# Altium schematic symbol library capacitor.SchLib: 60 symbols
Pins are listed as number, name and electrical type; pins without a type are passive.

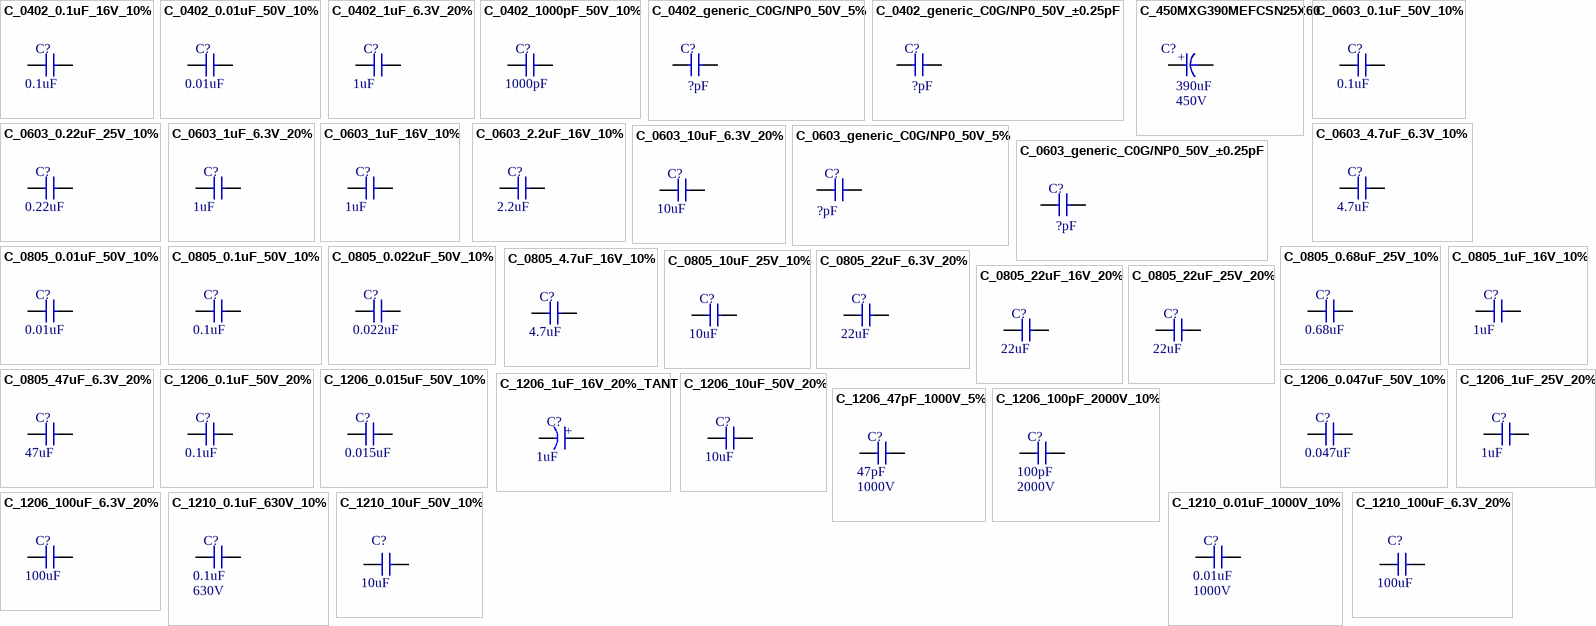
[diagram p0: symbols C_0402_0.1uF_16V_10% to C_1210_100uF_6.3V_20%]

## C_0402_0.1uF_16V_10%
designator C?, comment value 0.1uF  (hidden comment: CAP 0.1uF 16V X7R)
CAP CERM 0.1uF 10% 16V 0402; Package: =SelectedPackage; Voltage: 16V; Temperature Coefficient: X7R; Supplier 1: Digi-Key; Supplier Part Number 1: 1276-1001-1-ND; Supplier 2: Digi-Key; Supplier Part Number 2: 587-1451-1-ND
simulation model Capacitor (Capacitor Model)
footprint 0402_CAPACITOR (0402 CAPACITOR)
pins: 1, 2

## C_0402_0.01uF_50V_10%
designator C?, comment value 0.01uF  (hidden comment: CAP 0.01uF 50V X7R)
CAP CERM 0.01uF 10% 50V 0402; Package: =SelectedPackage; Voltage: 50V; Temperature Coefficient: X7R; Supplier 1: Digi-Key; Supplier Part Number 1: 1276-1028-1-ND
simulation model Capacitor (Capacitor Model)
footprint 0402_CAPACITOR (0402 CAPACITOR)
pins: 1, 2

## C_0402_1uF_6.3V_20%
designator C?, comment value 1uF  (hidden comment: CAP 1uF 6.3V X5R)
CAP CERM 1uF 20% 6.3V 0402; Package: =SelectedPackage; Voltage: 6.3V; Temperature Coefficient: X5R; Supplier 1: Digi-Key; Supplier Part Number 1: 1276-1235-1-ND
simulation model Capacitor (Capacitor Model)
footprint 0402_CAPACITOR (0402 CAPACITOR)
pins: 1, 2

## C_0402_1000pF_50V_10%
designator C?, comment value 1000pF  (hidden comment: CAP 1000pF 16V X7R)
CAP CERM 1000pF 10% 50V 0402; Package: =SelectedPackage; Voltage: 16V; Temperature Coefficient: X7R; Supplier 1: Digi-Key; Supplier 2: Digi-Key; Supplier Part Number 1: 1276-1032-1-ND; Supplier Part Number 2: 311-1036-1-ND
simulation model Capacitor (Capacitor Model)
footprint 0402_CAPACITOR (0402 CAPACITOR)
pins: 1, 2

## C_0402_generic_C0G/NP0_50V_5%
designator C?, comment value ?pF  (hidden comment: C_0402_?pF_C0G/NP0_50V_5%)
Generic 0402 C0G/NP0 50V 5% ceramic capacitor / Valid values range from 10pF to 1000pF with E24 selection (1.0, 1.1, 1.2, 1.3, 1.5, 1.6, 1.8, 2.0, 2.2, 2.4, 2.7, 3.0, 3.3, 3.6, 3.9, 4.3, 4.7, 5.1, 5.6, 6.2, 6.8, 7.5, 8.2, 9.1), although E12 are more common; Manufacturer: Samsung; Temperature Coefficient: C0G, NP0; Package: =SelectedPackage; Voltage: 50V; ValueFormatted: =Copy(Value,0,2)+Copy('012',Pos('p',Value)-2,1); Manufacturer Part Number: ='CL05C'+ValueFormatted+'JB5NNNC'; HelpURL: https://www.digikey.com/products/en/capacitors/ceramic-capacitors/60?k=&pkeyword=&sv=0&pv405=19&sf=0&FV=fffc04fc%2Cc0002%2Cc0003%2C1c0002%2C380020%2C400004%2C440012%2C3f00019%2C1f140000%2Cffe0003c%2Cmu1000pF%7C2049%2Cmu100pF%7C2049%2Cmu10pF%7C2049%2Cmu11pF%7C2049%2Cmu120pF%7C2049%2Cmu12pF%7C2049%2Cmu13pF%7C2049%2Cmu150pF%7C2049%2Cmu15pF%7C2049%2Cmu16pF%7C2049%2Cmu180pF%7C2049%2Cmu18pF%7C2049%2Cmu200pF%7C2049%2Cmu20pF%7C2049%2Cmu220pF%7C2049%2Cmu22pF%7C2049%2Cmu24pF%7C2049%2Cmu270pF%7C2049%2Cmu27pF%7C2049%2Cmu30pF%7C2049%2Cmu330pF%7C2049%2Cmu33pF%7C2049%2Cmu36pF%7C2049%2Cmu390pF%7C2049%2Cmu39pF%7C2049%2Cmu470pF%7C2049%2Cmu47pF%7C2049%2Cmu51pF%7C2049%2Cmu560pF%7C2049%2Cmu56pF%7C2049%2Cmu62pF%7C2049%2Cmu680pF%7C2049%2Cmu68pF%7C2049%2Cmu75pF%7C2049%2Cmu820pF%7C2049%2Cmu82pF%7C2049%2Cmu91pF%7C2049&ColumnSort=2049
simulation model Capacitor (Capacitor Model)
footprint 0402_CAPACITOR (0402 CAPACITOR)
pins: 1, 2

## C_0402_generic_C0G/NP0_50V_±0.25pF
designator C?, comment value ?pF  (hidden comment: C_0402_?pF_C0G/NP0_±0.25pF)
Generic 0402 C0G/NP0 50V ±0.25pF ceramic capacitor, Very small values only / Valid values range from 0.5pF to 10pF. Specifically (in pF): / 0.5, 0.75, 1, 1.2, 1.5, 1.8, 2, 2.2, 2.4, 2.7, 3, 3.3, 3.6, 3.9, 4, 4.3, 4.7, 5, 5.1, 5.6, 6, 6.8, 8, 8.2, 9, 10; Manufacturer: Samsung; Temperature Coefficient: C0G, NP0; Package: =SelectedPackage; Voltage: 50V; ValueFormatted: =Copy(Copy(Value,0,Pos('.',Value)-Pos('p',Value)+3)+'R'+Copy(Value,Pos('.',Value)+1,Pos('p',Value)-Pos('.',Value)-1),0,Pos('.',Value)*2)+Copy(Copy('0',Length(Value)-2,1)+Copy(Value,0,Pos('p',Value)-1)+'0',Pos('.',Value)*10,10); Manufacturer Part Number: ='CL05C'+ValueFormatted+'CB5NNNC'; HelpURL: https://www.digikey.com/products/en/capacitors/ceramic-capacitors/60?FV=ffe0003c%2C1c0002%2C1f140000&quantity=0&ColumnSort=2049&page=1&k=CB5NNNC&pageSize=100&pkeyword=CB5NNNC
simulation model Capacitor (Capacitor Model)
footprint 0402_CAPACITOR (0402 CAPACITOR)
pins: 1, 2

## C_450MXG390MEFCSN25X60
designator C?, comment value 390uF  Voltage: 450V  (hidden comment: 450MXG390MEFCSN25X60)
390µF 450V Aluminum Electrolytic Capacitors Radial, Can - Snap-In 3000 Hrs @ 105°C; Manufacturer: Rubycon; Ripple Current @ Low Frequency: 2.07A @ 120Hz; Ripple Current @ High Frequency: 2.898A @ 10kHz; Tolerance: 20%; Manufacturer Part Number: 450MXG390MEFCSN25X60; Lifetime @ Temp.: 3000 Hrs @ 105°C; Operating Temperature: -25°C ~ 105°C; Supplier 1: Digi-Key; Supplier Part Number 1: 1189-3394-ND
footprint CAP_RADIAL_25x62mm_THRU (Aluminum Capacitor Radial)
pins: 1, 2
text: +

## C_0603_0.1uF_50V_10%
designator C?, comment value 0.1uF  (hidden comment: CAP 0.1uF 50V X7R)
CAP CERM 0.1uF 10% 50V 0603; SVP Creator: Spencer Berglund; Package: =SelectedPackage; Voltage: 50V; Temperature Coefficient: X7R; Supplier 1: Digi-Key; Supplier Part Number 1: 1276-1000-1-ND
simulation model Capacitor (Capacitor Model)
footprint 0603_CAPACITOR (0603 Capacitor)
pins: 1, 2

## C_0603_0.22uF_25V_10%
designator C?, comment value 0.22uF  (hidden comment: CAP 0.22uF 25V X7R)
CAP CER 0.22UF 25V X7R 0603; Package: =SelectedPackage; Voltage: 25V; Temperature Coefficient: X7R; Supplier 1: Arrow; Supplier 2: Digi-Key; Supplier Part Number 1: CL10B224KA8NNNC; Supplier Part Number 2: 1276-1111-1-ND
simulation model Capacitor (Capacitor Model)
footprint 0603_CAPACITOR (0603 Capacitor)
pins: 1, 2

## C_0603_1uF_6.3V_20%
designator C?, comment value 1uF  (hidden comment: CAP 1uF 6.3V X5R)
CAP CERM 1uF 20% 6.3V 0603; SVP Creator: Spencer Berglund; Package: =SelectedPackage; Voltage: 6.3V; Temperature Coefficient: X5R; Supplier 1: Digi-Key; Supplier Part Number 1: 1276-1867-1-ND
simulation model Capacitor (Capacitor Model)
footprint 0603_CAPACITOR (0603 Capacitor)
pins: 1, 2

## C_0603_1uF_16V_10%
designator C?, comment value 1uF  (hidden comment: CAP 1uF 16V X7R)
CAP CERM 1uF 10% 16V 0603; SVP Creator: Spencer Berglund; Package: =SelectedPackage; Voltage: 16V; Temperature Coefficient: X7R; Supplier 1: Digi-Key; Supplier Part Number 1: 1276-6524-6-ND
simulation model Capacitor (Capacitor Model)
footprint 0603_CAPACITOR (0603 Capacitor)
pins: 1, 2

## C_0603_2.2uF_16V_10%
designator C?, comment value 2.2uF  (hidden comment: CAP 2.2uF 16V X5R)
CAP CERM 2.2uF 10% 16V 0603; SVP Creator: Spencer Berglund; Package: =SelectedPackage; Voltage: 16V; Temperature Coefficient: X5R; Supplier 1: Digi-Key; Supplier Part Number 1: 399-7886-6-ND
simulation model Capacitor (Capacitor Model)
footprint 0603_CAPACITOR (0603 Capacitor)
pins: 1, 2

## C_0603_4.7uF_6.3V_10%
designator C?, comment value 4.7uF  (hidden comment: CAP 4.7uF 6.3V X5R)
CAP CER 4.7UF 6.3V X5R 0603; Package: =SelectedPackage; Voltage: 6.3V; Temperature Coefficient: X5R; Supplier 1: Digi-Key; Supplier Part Number 1: 1276-1045-1-ND
simulation model Capacitor (Capacitor Model)
footprint 0603_Capacitor (0603 Capacitor)
pins: 1, 2

## C_0603_10uF_6.3V_20%
designator C?, comment value 10uF  (hidden comment: CAP 10uF 6.3V X5R)
CAP CER 10UF 6.3V X5R 0603; Package: =SelectedPackage; Voltage: 6.3V; Temperature Coefficient: X5R; Supplier 1: Digi-Key; Supplier Part Number 1: 1276-1119-1-ND
footprint 0603_Capacitor (0603 Capacitor)
simulation model Capacitor (Capacitor Model)
pins: 1, 2

## C_0603_generic_C0G/NP0_50V_5%
designator C?, comment value ?pF  (hidden comment: C_0603_?pF_C0G/NP0_50V_5%)
Generic 0603 C0G/NP0 50V 5% ceramic capacitor / Valid values range from 10pF to 5600pF with E24 selection (1.0, 1.1, 1.2, 1.3, 1.5, 1.6, 1.8, 2.0, 2.2, 2.4, 2.7, 3.0, 3.3, 3.6, 3.9, 4.3, 4.7, 5.1, 5.6, 6.2, 6.8, 7.5, 8.2, 9.1), although E12 are more common; Manufacturer: Samsung; Temperature Coefficient: C0G, NP0; Package: =SelectedPackage; Voltage: 50V; ValueFormatted: =Copy(Value,0,2)+Copy('012',Pos('p',Value)-2,1); Manufacturer Part Number: ='CL10C'+ValueFormatted+'JB8NNNC'; HelpURL: https://www.digikey.com/products/en/capacitors/ceramic-capacitors/60?k=&pkeyword=&sv=0&sf=0&FV=fffc04fc%2Cc0002%2C1c0002%2C380020%2C400005%2C440012%2C3f00019%2C6540013%2C1f140000%2Cffe0003c&quantity=&ColumnSort=2049
simulation model Capacitor (Capacitor Model)
footprint 0603_Capacitor (0603 Capacitor)
pins: 1, 2

## C_0603_generic_C0G/NP0_50V_±0.25pF
designator C?, comment value ?pF  (hidden comment: C_0603_?pF_C0G/NP0_50V_±0.25pF)
Generic 0603 C0G/NP0 50V ±0.25pF ceramic capacitor, Very small values only / Valid values range from 0.5pF to 10pF. Specifically (in pF): / 0.3, 0.5, 0.75, 1, 1.2, 1.5, 1.8, 2, 2.2, 2.4, 2.7, 3, 3.3, 3.6, 3.9, 4, 4.3, 4.7, 5, 5.1, 5.6, 6, 6.8, 8, 8.2, 9, 10; Manufacturer: Samsung; Temperature Coefficient: C0G, NP0; Package: =SelectedPackage; Voltage: 50V; ValueFormatted: =Copy(Copy(Value,0,Pos('.',Value)-Pos('p',Value)+3)+'R'+Copy(Value,Pos('.',Value)+1,Pos('p',Value)-Pos('.',Value)-1),0,Pos('.',Value)*2)+Copy(Copy('0',Length(Value)-2,1)+Copy(Value,0,Pos('p',Value)-1)+'0',Pos('.',Value)*10,10); Manufacturer Part Number: ='CL10C'+ValueFormatted+'CB8NNNC'; HelpURL: https://www.digikey.com/products/en/capacitors/ceramic-capacitors/60?FV=fffc04fc%2C1c0002%2Cffe0003c%2C1f140000&quantity=0&ColumnSort=2049&k=CB8NNNC&pkeyword=CB8NNNC
simulation model Capacitor (Capacitor Model)
footprint 0402_Capacitor (0402 CAPACITOR)
pins: 1, 2

## C_0805_0.01uF_50V_10%
designator C?, comment value 0.01uF  (hidden comment: CAP 0.01uF 50V X7R)
CAP CERM 0.01uF 10% 50V 0805; SVP Creator: Spencer Berglund; Package: =SelectedPackage; Voltage: 50V; Temperature Coefficient: X7R; Supplier 1: Digi-Key; Supplier Part Number 1: 1276-1078-1-ND
footprint 0805_Capacitor (0805 Capacitor)
simulation model Capacitor (Capacitor Model)
pins: 1, 2

## C_0805_0.1uF_50V_10%
designator C?, comment value 0.1uF  (hidden comment: CAP 0.1uF 50V X7R)
CAP CERM 0.1uF 10% 50V 0805; SVP Creator: Spencer Berglund; Package: =SelectedPackage; Voltage: 50V; Temperature Coefficient: X7R; Supplier 1: Digi-Key; Supplier Part Number 1: 1276-1003-1-ND
footprint 0805_Capacitor (0805 Capacitor)
simulation model Capacitor (Capacitor Model)
pins: 1, 2

## C_0805_0.022uF_50V_10%
designator C?, comment value 0.022uF  (hidden comment: CAP 0.022uF 50V X7R)
CAP CERM 0.022uF 10% 50V 0805; SVP Creator: Spencer Berglund; Package: =SelectedPackage; Voltage: 50V; Temperature Coefficient: X7R; Supplier 1: Digi-Key; Supplier Part Number 1: 1276-1795-1-ND
footprint 0805_Capacitor (0805 Capacitor)
simulation model Capacitor (Capacitor Model)
pins: 1, 2

## C_0805_0.68uF_25V_10%
designator C?, comment value 0.68uF  (hidden comment: CAP 0.68uF 25V X7R)
CAP CERM 0.68uF 10% 25V 0805; Package: =SelectedPackage; Voltage: 25V; Temperature Coefficient: X7R; Supplier 1: Digi-Key; Supplier 2: Mouser; Supplier Part Number 1: 311-3386-1-ND; Supplier Part Number 2: 603-CC805KKX7R8BB684
footprint 0805_Capacitor (0805 Capacitor)
simulation model Capacitor (Capacitor Model)
pins: 1, 2

## C_0805_1uF_16V_10%
designator C?, comment value 1uF  (hidden comment: CAP 1uF 16V X7R)
CAP CERM 1uF 10% 16V 0805; SVP Creator: Spencer Berglund; Package: =SelectedPackage; Voltage: 16V; Temperature Coefficient: X7R; Supplier 1: Digi-Key; Supplier Part Number 1: 1276-6471-1-ND
footprint 0805_Capacitor (0805 Capacitor)
simulation model Capacitor (Capacitor Model)
pins: 1, 2

## C_0805_4.7uF_16V_10%
designator C?, comment value 4.7uF  (hidden comment: CAP 4.7uF 16V X5R)
CAP CERM 4.7uF 10% 16V 0805; SVP Creator: Spencer Berglund; Package: =SelectedPackage; Voltage: 16V; Temperature Coefficient: X5R; Supplier 1: Digi-Key; Supplier Part Number 1: 1276-1065-6-ND
footprint 0805_Capacitor (0805 Capacitor)
simulation model Capacitor (Capacitor Model)
pins: 1, 2

## C_0805_10uF_25V_10%
designator C?, comment value 10uF  (hidden comment: CAP 10uF 25V X5R)
CAP CER 10UF 25V X5R 0805; Package: =SelectedPackage; Voltage: 25V; Temperature Coefficient: X5R; Supplier 1: Digi-Key; Supplier Part Number 1: 1276-2891-1-ND
footprint 0805_Capacitor (0805 Capacitor)
simulation model Capacitor (Capacitor Model)
pins: 1, 2

## C_0805_22uF_6.3V_20%
designator C?, comment value 22uF  (hidden comment: CAP 22uF 6.3V X5R)
CAP CERM 22uF 20% 6.3V 0805; Package: =SelectedPackage; Voltage: 6.3V; Temperature Coefficient: X5R; Supplier 1: Digi-Key; Supplier Part Number 1: 1276-1100-1-ND
footprint 0805_Capacitor (0805 Capacitor)
simulation model Capacitor (Capacitor Model)
pins: 1, 2

## C_0805_22uF_16V_20%
designator C?, comment value 22uF  (hidden comment: CAP 22uF 16V X5R)
CAP CERM 22uF 20% 16V 0805; Package: =SelectedPackage; Voltage: 16V; Temperature Coefficient: X5R; Supplier 1: Digi-Key; Supplier Part Number 1: 1276-6780-6-ND
footprint 0805_Capacitor (0805 Capacitor)
simulation model Capacitor (Capacitor Model)
pins: 1, 2

## C_0805_22uF_25V_20%
designator C?, comment value 22uF  (hidden comment: CAP 22uF 25V X5R)
CAP CERM 22uF 20% 25V 0805; Package: =SelectedPackage; Voltage: 25V; Temperature Coefficient: X5R; Supplier 1: Digi-Key; Supplier 2: Mouser; Supplier Part Number 1: 490-14661-1-ND; Supplier Part Number 2: 81-GRM21BR61E226ME4K
footprint 0805_Capacitor (0805 Capacitor)
simulation model Capacitor (Capacitor Model)
pins: 1, 2

## C_0805_47uF_6.3V_20%
designator C?, comment value 47uF  (hidden comment: CAP 47uF 6.3V X5R)
CAP CERM 47uF 20% 6.3V 0805; Package: =SelectedPackage; Voltage: 6.3V; Temperature Coefficient: X5R; Supplier 1: Digi-Key; Supplier Part Number 1: 1276-1852-1-ND
footprint 0805_Capacitor (0805 Capacitor)
simulation model Capacitor (Capacitor Model)
pins: 1, 2

## C_1206_0.1uF_50V_20%
designator C?, comment value 0.1uF  (hidden comment: CAP 0.1uF 50V X7R)
CAP CERM 0.1uF 20% 50V 1206; SVP Creator: Spencer Berglund; Package: =SelectedPackage; Voltage: 50V; Temperature Coefficient: X7R; Supplier 1: Digi-Key; Supplier Part Number 1: 1276-2746-1-ND
simulation model Capacitor (Capacitor Model)
footprint 1206_CAPACITOR (1206 Resistor/Capacitor)
pins: 1, 2

## C_1206_0.015uF_50V_10%
designator C?, comment value 0.015uF  (hidden comment: CAP 0.015uF 50V X7R)
CAP CERM 0.015uF 10% 50V 1206; SVP Creator: Spencer Berglund; Package: =SelectedPackage; Voltage: 50V; Temperature Coefficient: X7R; Supplier 1: Digi-Key; Supplier Part Number 1: 1276-1773-1-ND
simulation model Capacitor (Capacitor Model)
footprint 1206_CAPACITOR (1206 Resistor/Capacitor)
pins: 1, 2

## C_1206_0.047uF_50V_10%
designator C?, comment value 0.047uF  (hidden comment: CAP 0.047uF 50V X7R)
CAP CERM 0.047uF 10% 50V 1206; SVP Creator: Spencer Berglund; Package: =SelectedPackage; Voltage: 50V; Temperature Coefficient: X7R; Supplier 1: Digi-Key; Supplier Part Number 1: 1276-1149-1-ND
simulation model Capacitor (Capacitor Model)
footprint 1206_CAPACITOR (1206 Resistor/Capacitor)
pins: 1, 2

## C_1206_1uF_16V_20%_TANT
designator C?  value 1uF
CAP TANT 1uF 20% 16V 1206; SVP Creator: Spencer Berglund; Type: Tantalum; Package: =SelectedPackage; Voltage: 16V; Supplier 1: Digi-Key; Supplier Part Number 1: 399-3681-1-ND
simulation model Capacitor (Capacitor Model)
footprint 1206_CAPACITOR_TANT (1206 Capacitor (Tantalum))
pins: 1, 2
text: +

## C_1206_1uF_25V_20%
designator C?, comment value 1uF  (hidden comment: CAP 1uF 25V X7R)
CAP CERM 1uF 20% 25V 1206; SVP Creator: Spencer Berglund; Package: =SelectedPackage; Voltage: 25V; Temperature Coefficient: X7R; Supplier 1: Digi-Key; Supplier Part Number 1: 1276-3098-1-ND
simulation model Capacitor (Capacitor Model)
footprint 1206_CAPACITOR (1206 Resistor/Capacitor)
pins: 1, 2

## C_1206_10uF_50V_20%
designator C?, comment value 10uF  (hidden comment: CAP 10uF 50V X5R)
CAP CERM 10uF 20% 50V 1206; SVP Creator: Spencer Berglund; Package: =SelectedPackage; Voltage: 50V; Temperature Coefficient: X5R; Supplier 1: Digi-Key; Supplier Part Number 1: 1276-6736-6-ND
simulation model Capacitor (Capacitor Model)
footprint 1206_CAPACITOR (1206 Resistor/Capacitor)
pins: 1, 2

## C_1206_47pF_1000V_5%
designator C?, comment value 47pF  Voltage: 1000V  (hidden comment: CAP 47pF 1000V C0G/NPO)
CAP CER 47PF 1KV C0G/NPO 1206; Package: =SelectedPackage; Temperature Coefficient: C0G/NPO; Supplier 1: Digi-Key; Supplier Part Number 1: 311-1915-6-ND
simulation model Capacitor (Capacitor Model)
footprint 1206_CAPACITOR (1206 Resistor/Capacitor)
pins: 1, 2

## C_1206_100pF_2000V_10%
designator C?, comment value 100pF  Voltage: 2000V  (hidden comment: CAP 100pF 2000V X7R)
CAP CER 100PF 2KV X7R 1206; SVP Creator: Spencer Berglund; Package: =SelectedPackage; Temperature Coefficient: X7R; Supplier 1: Digi-Key; Supplier Part Number 1: 478-3999-6-ND
simulation model Capacitor (Capacitor Model)
footprint 1206_CAPACITOR (1206 Resistor/Capacitor)
pins: 1, 2

## C_1206_100uF_6.3V_20%
designator C?, comment value 100uF  (hidden comment: CAP 100uF 6.3V X5R)
CAP CERM 100uF 20% 6.3V 1206; Package: =SelectedPackage; Voltage: 6.3V; Temperature Coefficient: X5R; Supplier 1: Digi-Key; Supplier Part Number 1: 1276-1782-1-ND
simulation model Capacitor (Capacitor Model)
footprint 1206_CAPACITOR (1206 Resistor/Capacitor)
pins: 1, 2

## C_1210_0.1uF_630V_10%
designator C?, comment value 0.1uF  Voltage: 630V  (hidden comment: C1210C104KBRAC7800)
CAP CER 0.1UF 630V X7R 1210; Manufacturer: KEMET; Package: 1210; Manufacturer PN: C1210C104KBRAC7800; Supplier 1: Digi-Key; Supplier Part Number 1: 399-13490-1-ND
footprint 1210_Capacitor (1210 Capacitor)
simulation model Capacitor (Capacitor Model)
pins: 1, 2

## C_1210_0.01uF_1000V_10%
designator C?, comment value 0.01uF  Voltage: 1000V  (hidden comment: C1210C103KDRACAUTO)
CAP CER 1210 10NF 1000V X7R 10%; Manufacturer: KEMET; Package: 1210; Manufacturer PN: C1210C103KDRACAUTO; Supplier 1: Digi-Key; Supplier Part Number 1: 399-16742-1-ND
footprint 1210_Capacitor (1210 Capacitor)
simulation model Capacitor (Capacitor Model)
pins: 1, 2

## C_1210_10uF_50V_10%
designator C?  value 10uF
CAP CER 10UF 50V 10% X5R 1210; Manufacturer: Taiyo Yuden; Manufacturer PN: UMK325BJ106KM-T; Package: 1210; Supplier 1: Digi-Key; Supplier Part Number 1: 587-2247-1-ND; Voltage: 50V
footprint 1210_Capacitor (1210 Capacitor)
simulation model Capacitor (Capacitor Model)
pins: 1, 2

## C_1210_100uF_6.3V_20%
designator C?, comment value 100uF  (hidden comment: C3225X5R0J107M250AC)
CAP CER 100UF 6.3V 20% X5R 1210; SVP Creator: Spencer Berglund; Package: 1210; Supplier 1: Digi-Key; Supplier Part Number 1: 445-1437-1-ND
footprint 1210_Capacitor (1210 Capacitor)
simulation model Capacitor (Capacitor Model)
pins: 1, 2

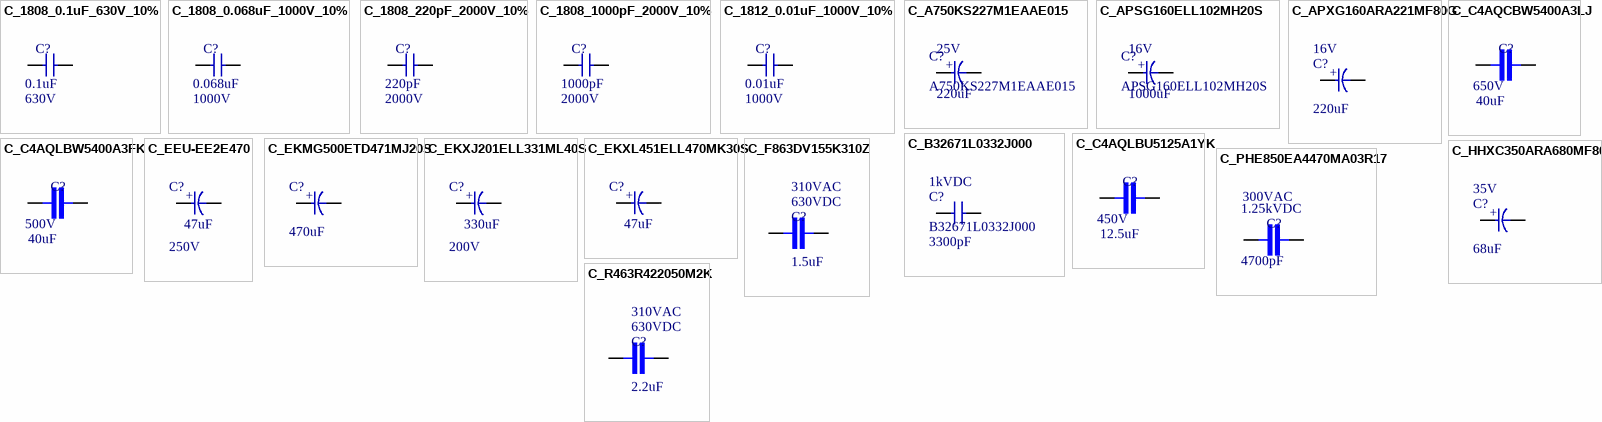
[diagram p1: symbols C_1808_0.1uF_630V_10% to C_R463R422050M2K]

## C_1808_0.1uF_630V_10%
designator C?, comment value 0.1uF  Voltage: 630V  (hidden comment: C1808X104KBRACTU)
CAP CER 0.1UF 630V X7R 1808; Manufacturer: KEMET; Package: 1808; Manufacturer PN: C1808X104KBRACTU; Supplier 1: Digi-Key; Supplier Part Number 1: 399-6776-1-ND
footprint 1808_Capacitor (1808 Capacitor)
simulation model Capacitor (Capacitor Model)
pins: 1, 2

## C_1808_0.068uF_1000V_10%
designator C?, comment value 0.068uF  Voltage: 1000V  (hidden comment: C1808C683KDRACTU)
CAP CER 0.068UF 1KV X7R 1808; Manufacturer: KEMET; Package: 1808; Manufacturer PN: C1808C683KDRACTU; Supplier 1: Digi-Key; Supplier Part Number 1: 399-6754-1-ND
footprint 1808_Capacitor (1808 Capacitor)
simulation model Capacitor (Capacitor Model)
pins: 1, 2

## C_1808_220pF_2000V_10%
designator C?, comment value 220pF  Voltage: 2000V  (hidden comment: GR442QR73D221KW01L)
CAP CER 220PF 2KV X7R 1808; Manufacturer: Murata; Package: 1808; Manufacturer PN: GR442QR73D221KW01L; Supplier 1: Digi-Key; Supplier Part Number 1: 490-6104-1-ND
footprint 1808_Capacitor (1808 Capacitor)
simulation model Capacitor (Capacitor Model)
pins: 1, 2

## C_1808_1000pF_2000V_10%
designator C?, comment value 1000pF  Voltage: 2000V  (hidden comment: C1808C102KGRACAUTO)
CAP CER 1000PF 2KV X7R 1808; Manufacturer: KEMET; Package: 1808; Manufacturer PN: C1808C102KGRACAUTO; Supplier 1: Digi-Key; Supplier Part Number 1: 399-15911-1-ND
footprint 1808_Capacitor (1808 Capacitor)
simulation model Capacitor (Capacitor Model)
pins: 1, 2

## C_1812_0.01uF_1000V_10%
designator C?, comment value 0.01uF  Voltage: 1000V  (hidden comment: C4532X7R3A103K200KA)
CAP CER 10000PF 1KV X7R 1812; Manufacturer: TDK; Package: 1812; Manufacturer PN: C4532X7R3A103K200KA; Supplier 1: Digi-Key; Supplier Part Number 1: 445-2388-6-ND
footprint 1812_Capacitor (Footprint not found)
simulation model Capacitor (Capacitor Model)
pins: 1, 2

## C_A750KS227M1EAAE015
designator C?, comment A750KS227M1EAAE015  value 220uF  Voltage Rating: 25V
220µF 25V Aluminum Polymer Capacitor Radial, Can 15 mOhm 2000 Hrs @ 105°C; Manufacturer: KEMET; Tolerance: 20%; ESR (Equivalent Series Resistance): 15mR; Life (Hours): 2000Hour; Supplier 1: Digi-Key; Supplier Part Number 1: 399-13899-ND; Max Operating Temperature: 105°C; Min Operating Temperature: -55°C; Manufacturer Part Number: A750KS227M1EAAE015
footprint CAP_RADIAL_3.5x13mm_THRU
pins: 1, 2
text: +

## C_APSG160ELL102MH20S
designator C?, comment APSG160ELL102MH20S  value 1000uF  Voltage Rating: 16V
1000µF 16V Aluminum Polymer Capacitor Radial, Can 8mOhm 20000 Hrs @ 105°C; Manufacturer: United Chemi-Con; Tolerance: 20%; ESR (Equivalent Series Resistance): 8mR; Life (Hours): 20000Hour; Max Operating Temperature: 105°C; Min Operating Temperature: -55°C; Manufacturer Part Number: APSG160ELL102MH20S; Supplier 1: Digi-Key; Supplier 2: Mouser; Supplier Part Number 1: 565-4311-ND; Supplier Part Number 2: 661-APSG160E102MH20S
footprint CAP_RADIAL_8x21.5mm_THRU (Aluminum Capacitor Radial, 3.5mm lead spacing)
pins: 1, 2
text: +

## C_APXG160ARA221MF80G
designator C?, comment value 220uF  Voltage Rating: 16V  (hidden comment: APXG160ARA221MF80G)
220µF 16V Aluminum Polymer Capacitor Radial, Can - SMD 22 mOhm 15000 Hrs @ 105°C; Manufacturer: United Chemi-Con; ESR (Equivalent Series Resistance): 22mR; Life (Hours): 15000Hour; Tolerance: 20%; Ripple Current: 3.3A; Supplier 1: Digi-Key; Supplier Part Number 1: 565-4283-6-ND; Manufacturer Part Number: APXG160ARA221MF80G; Min Operating Temperature: -55°C; Max Operating Temperature: 105°C
footprint CAP_6.3x8mm_SMD
pins: 1, 2
text: +

## C_B32671L0332J000
designator C?, comment B32671L0332J000  value 3300pF  Voltage Rating (DC): 1kVDC
3300pF Film Capacitor 500V 1000V (1kV) Polypropylene (PP), Metallized Radial; Manufacturer: TDK EPCOS; Tolerance: 5%; Voltage Rating (AC): 500VAC; Supplier 1: Digi-Key; Supplier Part Number 1: 495-3194-ND; Max Operating Temperature: 125°C; Manufacturer Part Number: B32671L0332J000; Min Operating Temperature: -55°C; Dielectric Material: Polypropylene
footprint C_FILM_10mm_13x4mm (10mm lead spaing flim capacitor)
pins: 1, 2

## C_C4AQCBW5400A3LJ
designator C?, comment value 40uF  Voltage: 650V  (hidden comment: C4AQCBW5400A3LJ)
40µF Film Capacitor 650V Polypropylene (PP), Metallized Radial - 4 Leads; Manufacturer: KEMET; Tolerance: 5%; ESR: 2.8mR; Supplier 1: Digi-Key; Supplier Part Number 1: 399-16997-ND; Manufacturer Part Number: C4AQCBW5400A3LJ; Dielectric Material: PP; Operating Temperature: -40°C ~ 105°C
footprint C_FILM_37.5mm_42x30mm_4-pin (37.5mm lead spaing, 4-pin flim capacitor)
pins: 1, 2

## C_C4AQLBU5125A1YK
designator C?, comment value 12.5uF  Voltage: 450V  (hidden comment: C4AQLBU5125A1YK)
12.5µF Film Capacitor 500V Polypropylene (PP), Metallized Radial; Manufacturer: KEMET; Tolerance: 10%; ESR: 6.8mR; Manufacturer Part Number: C4AQLBU5125A1YK; Dielectric Material: PP; Operating Temperature: -40°C ~ 105°C; Supplier 1: Digikey; Supplier Part Number 1: 399-16975-ND
footprint C_FILM_27.5mm_31.5x14mm (27.5mm lead spaing flim capacitor)
pins: 1, 2

## C_C4AQLBW5400A3FK
designator C?, comment value 40uF  Voltage: 500V  (hidden comment: C4AQLBW5400A3FK)
40µF Film Capacitor 500V Polypropylene (PP), Metallized Radial - 4 Leads; Manufacturer: KEMET; Tolerance: 10%; ESR: 3.5mR; Manufacturer Part Number: C4AQLBW5400A3FK; Dielectric Material: PP; Operating Temperature: -40°C ~ 105°C; Supplier 1: Digi-Key; Supplier Part Number 1: 399-16996-ND
footprint C_FILM_37.5mm_42x20mm_4-pin (Footprint not found)
pins: 1, 2

## C_EEU-EE2E470
designator C?, comment value 47uF  Voltage: 250V  (hidden comment: EEU-EE2E470)
47µF 250V Aluminum Electrolytic Capacitors Radial, Can 10000 Hrs @ 105°C; Manufacturer: Panasonic; Ripple Current @ Low Frequency: 451.5mA @ 120Hz; Ripple Current @ High Frequency: 1.29A @ 100kHz; Manufacturer Part Number: EEU-EE2E470; Lifetime @ Temp.: 10000 Hrs @ 105°C; Operating Temperature: -25°C ~ 105°C; Supplier 1: Digi-Key; Supplier Part Number 1: P13642-ND
footprint CAP_RADIAL_12.5x27mm_THRU (Aluminum Capacitor Radial)
pins: 1, 2
text: +

## C_EKMG500ETD471MJ20S
designator C?, comment value 470uF  (hidden comment: EKMG500ETD471MJ20S)
470µF 50V Aluminum Capacitors Radial, Can 1000 Hrs @ 105°C; Supplier 1: Digi-Key; Supplier Part Number 1: 565-3745-1-ND
footprint CAP_RADIAL_10x21.5mm_THRU (Aluminum Capacitor Radial)
pins: 1, 2
text: +

## C_EKXJ201ELL331ML40S
designator C?, comment value 330uF  Voltage: 200V  (hidden comment: EKXJ201ELL331ML40S)
330µF 200V Aluminum Electrolytic Capacitors Radial, Can 12000 Hrs @ 105°C; Manufacturer: United Chemi-Con; Ripple Current @ Low Frequency: 1.425A @ 120Hz; Ripple Current @ High Frequency: 3.20625A @ 100kHz; Manufacturer Part Number: EKXJ201ELL331ML40S; Lifetime @ Temp.: 12000 Hrs @ 105°C; Operating Temperature: -25°C ~ 105°C; Supplier 1: Digi-Key; Supplier Part Number 1: 565-3496-ND
footprint CAP_RADIAL_16x41.5mm_THRU (Aluminum Capacitor Radial)
pins: 1, 2
text: +

## C_EKXL451ELL470MK30S
designator C?, comment value 47uF  (hidden comment: EKXL451ELL470MK30S)
47µF 450V Aluminum Electrolytic Capacitors Radial, Can 12000 Hrs @ 105°C; Manufacturer: United Chemi-Con; Ripple Current @ Low Frequency: 440mA @ 120Hz; Ripple Current @ High Frequency: 1.1A @ 100kHz; Supplier 1: Digi-Key; Manufacturer Part Number: EKXL451ELL470MK30S; Supplier Part Number 1: 565-5051-ND; Voltage: 450V; Lifetime @ Temp.: 12000 Hrs @ 105°C; Operating Temperature: -40°C ~ 105°C
footprint CAP_RADIAL_12.5x32mm_THRU (Footprint not found)
pins: 1, 2
text: +

## C_F863DV155K310Z
designator C?, comment value 1.5uF  Voltage Rating (DC): 630VDC  Voltage Rating (AC): 310VAC  (hidden comment: F863DV155K310Z)
1.5µF Film Capacitor 310V Polypropylene (PP), Metallized Radial; Manufacturer: KEMET; Tolerance: 10%; Voltage: 630V; Manufacturer Part Number: F863DV155K310Z; Min Operating Temperature: -40°C; Dielectric Material: PP; Max Operating Temperature: 110°C; Supplier 1: Digi-Key; Supplier Part Number 1: 399-14810-ND
footprint C_FILM_22.5mm_26.5x13mm (22.5mm lead spaing flim capacitor)
pins: 1, 2

## C_HHXC350ARA680MF80G
designator C?, comment value 68uF  Voltage Rating: 35V  (hidden comment: HHXC350ARA680MF80G)
68µF 35V Aluminum Polymer Capacitor Radial, Can - SMD 35mOhm @ 100kHz 4000 Hrs @ 125°C; Tolerance: 20%; Type: Hybrid; Ripple Current @ High Frequency: 1.4A @ 100kHz; Supplier 1: Digi-Key; Supplier Part Number 1: 565-4778-1-ND; Operating Temperature: -55°C ~ 125°C; Lifetime @ Temp.: 4000 Hrs @ 125°C; ESR (Equivalent Series Resistance): 35 mOhm @ 100kHz
footprint CAP_6.3x8mm_SMD
pins: 1, 2
text: +

## C_PHE850EA4470MA03R17
designator C?, comment value 4700pF  Voltage Rating (DC): 1.25kVDC  Voltage Rating (AC): 300VAC  (hidden comment: PHE850EA4470MA03R17)
4700pF Film Capacitor 300V 1250V (1.25kV) Polypropylene (PP), Metallized Radial; Manufacturer: KEMET; Tolerance: 20%; Supplier 1: Digi-Key; Supplier Part Number 1: 399-5417-ND; Min Operating Temperature: -55°C; Dielectric: PP; Manufacturer Part Number: PHE850EA4470MA03R17; Max Operating Temperature: 110°C; Voltage: 300V
footprint C_FILM_10mm_13x5mm (Footprint not found)
pins: 1, 2

## C_R463R422050M2K
designator C?, comment value 2.2uF  Voltage Rating (DC): 630VDC  Voltage Rating (AC): 310VAC  (hidden comment: R463R422050M2K)
2.2µF Film Capacitor 310V 630V Polypropylene (PP), Metallized Radial; Manufacturer: KEMET; Tolerance: 10%; Supplier 1: Digi-Key; Supplier Part Number 1: 399-12804-ND; Manufacturer Part Number: R463R422050M2K; Min Operating Temperature: -40°C; Dielectric Material: PP; Max Operating Temperature: 110°C; Voltage: 630V
footprint C_FILM_27.5mm_32x13mm (27.5mm lead spaing flim capacitor)
pins: 1, 2